# Altium schematic symbol library TLC555ID.SchLib: 1 symbol
Pins are listed as number, name and electrical type; pins without a type are passive.

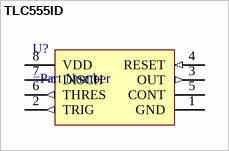
[diagram p0: symbol TLC555ID]

## TLC555ID
designator U?
=Description
pins: 1 GND (power), 2 TRIG (out), 3 OUT (out), 4 RESET (in), 5 CONT, 6 THRES (out), 7 DISCH (out), 8 VDD (power)